# Altium integrated library BATTERY_HOLDER.IntLib: 3 symbols
Pins are listed as number, name and electrical type; pins without a type are passive.

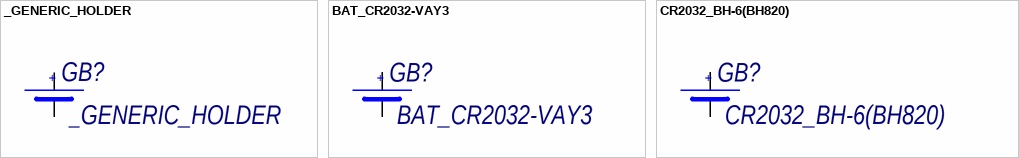
[diagram p0: symbols _GENERIC_HOLDER to CR2032_BH-6(BH820)]

## _GENERIC_HOLDER
designator GB?
Держатель элемента питания; ComponentDescription: Держатель элемента питания, _GENERIC_HOLDER; ComponentTypе: Держатель элемента питания
footprint CR2032
footprint CR2032_BH-6(BH820) (BATTERY HOLDER)
footprint BAT_CR2032-VAY3
pins: 1, 2
1 alternate drawing of the same symbol
text: +

## BAT_CR2032-VAY3
designator GB?
Держатель элемента питания; ComponentDescription: Держатель элемента питания, BAT_CR2032-VAY3; ComponentTypе: Держатель элемента питания
footprint BAT_CR2032-VAY3
pins: 1, 2
1 alternate drawing of the same symbol
text: +

## CR2032_BH-6(BH820)
designator GB?
Держатель элемента питания; ComponentDescription: Держатель элемента питания, CR2032_BH-6(BH820); ComponentTypе: Держатель элемента питания
footprint CR2032_BH-6(BH820) (BATTERY HOLDER)
pins: 1, 2
1 alternate drawing of the same symbol
text: +